# Altium footprint library 74ac-logic.PCBLIB: 21 footprints (part 2 of 2)
Each footprint in its own frame and in the unit in brackets; x right, y up, seen from the top. Pads: shape width x height; smd on the part's side, far side on the other; paste and mask are expansions set on the pad; w line width, h text height; cw(c..) or ccw(c..) is an arc to the next point about the centre after c.
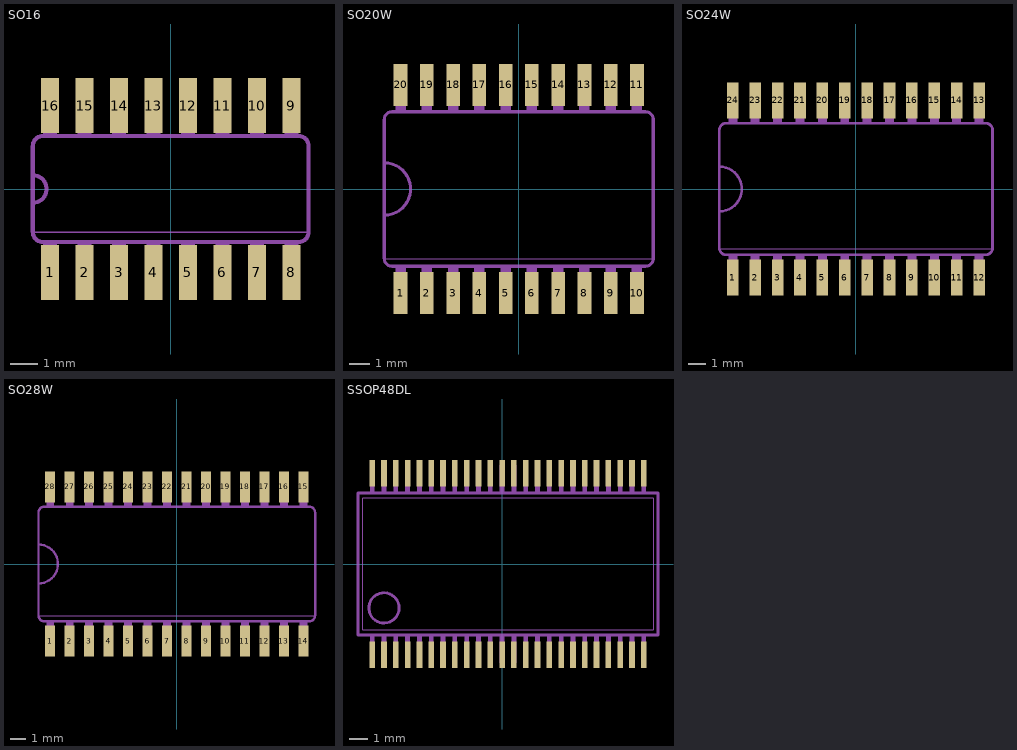
[diagram p1: the footprints below, top view; thin cyan lines are the x and y axes]

## SO16 [mil]
pads (16):
  rect 26x80 smd: 1(-175,-121) 2(-125,-121) 3(-75,-121) 4(-25,-121) 5(25,-121) 6(75,-121) 7(125,-121) 8(175,-121) 9(175,121) 10(125,121) 11(75,121) 12(25,121) 13(-25,121) 14(-75,121) 15(-125,121) 16(-175,121)
Mechanical 2:
  lines w2: -200,-63 200,-63
  lines w6: -200,-20 -200,20 ; -200,-20 -200,-62 ccw(c-185,-62) -185,-77 185,-77 ccw(c185,-62) 200,-62 200,62 ccw(c185,62) 185,77 -185,77 ccw(c-185,62) -200,62 -200,20 ; -200,-20 ccw(c-200,0) -200,20
Mechanical 18:
  rectangle: -35,77 -15,122
  rectangle: -185,-122 -165,-77
  rectangle: -135,-122 -115,-77
  rectangle: -85,-121 -65,-76
  rectangle: -35,-122 -15,-77
  rectangle: -85,77 -65,122
  rectangle: -135,77 -115,122
  rectangle: -185,77 -165,122
  rectangle: 15,-122 35,-77
  rectangle: 65,-122 85,-77
  rectangle: 115,-122 135,-77
  rectangle: 165,-122 185,-77
  rectangle: 15,77 35,122
  rectangle: 65,77 85,122
  rectangle: 115,77 135,122
  rectangle: 165,77 185,122

## SO20W [mil]
pads (20):
  rect 26x80 smd: 1(-225,-198) 2(-175,-198) 3(-125,-198) 4(-75,-198) 5(-25,-198) 6(25,-198) 7(75,-198) 8(125,-198) 9(175,-198) 10(225,-198) 11(225,198) 12(175,198) 13(125,198) 14(75,198) 15(25,198) 16(-25,198) 17(-75,198) 18(-125,198) 19(-175,198) 20(-225,198)
Mechanical 2:
  rectangle: -235,-152 -215,-147
  rectangle: -185,-152 -165,-147
  rectangle: -135,-152 -115,-147
  rectangle: -85,-152 -65,-147
  rectangle: -35,-152 -15,-147
  rectangle: 15,-152 35,-147
  rectangle: 65,-152 85,-147
  rectangle: 115,-152 135,-147
  rectangle: -235,147 -215,152
  rectangle: -185,147 -165,152
  rectangle: -135,147 -115,152
  rectangle: -85,147 -65,152
  rectangle: -35,147 -15,152
  rectangle: 15,147 35,152
  rectangle: 65,147 85,152
  rectangle: 115,147 135,152
  rectangle: 165,147 185,152
  rectangle: 215,147 235,152
  rectangle: 165,-152 185,-147
  rectangle: 215,-152 235,-147
  lines w2: -255,-133 255,-133
  lines w6: -256,-50 -256,50 ; -256,-50 -256,-132 ccw(c-241,-132) -241,-147 241,-147 ccw(c241,-132) 256,-132 256,132 ccw(c241,132) 241,147 -241,147 ccw(c-241,132) -256,132 -256,50 ; -256,-50 ccw(c-256,0) -256,50
Mechanical 18:
  rectangle: -235,-210 -215,-152
  rectangle: -185,-210 -165,-152
  rectangle: -135,-210 -115,-152
  rectangle: -85,-210 -65,-152
  rectangle: -35,-210 -15,-152
  rectangle: 15,-210 35,-152
  rectangle: 65,-210 85,-152
  rectangle: 115,-210 135,-152
  rectangle: -235,152 -215,210
  rectangle: -185,152 -165,210
  rectangle: -135,152 -115,210
  rectangle: -85,152 -65,210
  rectangle: -35,152 -15,210
  rectangle: 15,152 35,210
  rectangle: 65,152 85,210
  rectangle: 115,152 135,210
  rectangle: 165,152 185,210
  rectangle: 215,152 235,210
  rectangle: 165,-210 185,-152
  rectangle: 215,-210 235,-152

## SO24W [mil]
pads (24):
  rect 26x80 smd: 1(-275,-198) 2(-225,-198) 3(-175,-198) 4(-125,-198) 5(-75,-198) 6(-25,-198) 7(25,-198) 8(75,-198) 9(125,-198) 10(175,-198) 11(225,-198) 12(275,-198) 13(275,198) 14(225,198) 15(175,198) 16(125,198) 17(75,198) 18(25,198) 19(-25,198) 20(-75,198) 21(-125,198) 22(-175,198) 23(-225,198) 24(-275,198)
Mechanical 2:
  rectangle: -285,-152 -265,-147
  rectangle: -235,-152 -215,-147
  rectangle: -185,-152 -165,-147
  rectangle: -135,-152 -115,-147
  rectangle: -85,-152 -65,-147
  rectangle: -35,-152 -15,-147
  rectangle: 15,-152 35,-147
  rectangle: 65,-152 85,-147
  rectangle: -285,147 -265,152
  rectangle: -235,147 -215,152
  rectangle: -185,147 -165,152
  rectangle: -135,147 -115,152
  rectangle: -85,147 -65,152
  rectangle: -35,147 -15,152
  rectangle: 15,147 35,152
  rectangle: 65,147 85,152
  rectangle: 115,147 135,152
  rectangle: 165,147 185,152
  rectangle: 215,147 235,152
  rectangle: 265,147 285,152
  rectangle: 115,-152 135,-147
  rectangle: 165,-152 185,-147
  rectangle: 215,-152 235,-147
  rectangle: 265,-152 285,-147
  lines w2: -305,-133 305,-133
  lines w6: -305,-50 -305,50 ; -305,-50 -305,-132 ccw(c-290,-132) -290,-147 290,-147 ccw(c290,-132) 305,-132 305,132 ccw(c290,132) 290,147 -290,147 ccw(c-290,132) -305,132 -305,50 ; -305,-50 ccw(c-305,0) -305,50
Mechanical 18:
  rectangle: -285,-210 -265,-152
  rectangle: -235,-210 -215,-152
  rectangle: -185,-210 -165,-152
  rectangle: -135,-210 -115,-152
  rectangle: -85,-210 -65,-152
  rectangle: -35,-210 -15,-152
  rectangle: 15,-210 35,-152
  rectangle: 65,-210 85,-152
  rectangle: -285,152 -265,210
  rectangle: -235,152 -215,210
  rectangle: -185,152 -165,210
  rectangle: -135,152 -115,210
  rectangle: -85,152 -65,210
  rectangle: -35,152 -15,210
  rectangle: 15,152 35,210
  rectangle: 65,152 85,210
  rectangle: 115,152 135,210
  rectangle: 165,152 185,210
  rectangle: 215,152 235,210
  rectangle: 265,152 285,210
  rectangle: 115,-210 135,-152
  rectangle: 165,-210 185,-152
  rectangle: 215,-210 235,-152
  rectangle: 265,-210 285,-152

## SO28W [mil]
pads (28):
  rect 26x80 smd: 1(-325,-198) 2(-275,-198) 3(-225,-198) 4(-175,-198) 5(-125,-198) 6(-75,-198) 7(-25,-198) 8(25,-198) 9(75,-198) 10(125,-198) 11(175,-198) 12(225,-198) 13(275,-198) 14(325,-198) 15(325,198) 16(275,198) 17(225,198) 18(175,198) 19(125,198) 20(75,198) 21(25,198) 22(-25,198) 23(-75,198) 24(-125,198) 25(-175,198) 26(-225,198) 27(-275,198) 28(-325,198)
Mechanical 2:
  rectangle: -335,-152 -315,-147
  rectangle: -285,-152 -265,-147
  rectangle: -235,-152 -215,-147
  rectangle: -185,-152 -165,-147
  rectangle: -135,-152 -115,-147
  rectangle: -85,-152 -65,-147
  rectangle: -35,-152 -15,-147
  rectangle: 15,-152 35,-147
  rectangle: -335,147 -315,152
  rectangle: -285,147 -265,152
  rectangle: -235,147 -215,152
  rectangle: -185,147 -165,152
  rectangle: -135,147 -115,152
  rectangle: -85,147 -65,152
  rectangle: -35,147 -15,152
  rectangle: 15,147 35,152
  rectangle: 65,147 85,152
  rectangle: 115,147 135,152
  rectangle: 165,147 185,152
  rectangle: 215,147 235,152
  rectangle: 265,147 285,152
  rectangle: 315,147 335,152
  rectangle: 65,-152 85,-147
  rectangle: 115,-152 135,-147
  rectangle: 165,-152 185,-147
  rectangle: 215,-152 235,-147
  rectangle: 265,-152 285,-147
  rectangle: 315,-152 335,-147
  lines w2: -355,-133 355,-133
  lines w6: -355,-50 -355,50 ; -355,-50 -355,-132 ccw(c-340,-132) -340,-147 340,-147 ccw(c340,-132) 355,-132 355,132 ccw(c340,132) 340,147 -340,147 ccw(c-340,132) -355,132 -355,50 ; -355,-50 ccw(c-355,0) -355,50
Mechanical 18:
  rectangle: -335,-210 -315,-152
  rectangle: -285,-210 -265,-152
  rectangle: -235,-210 -215,-152
  rectangle: -185,-210 -165,-152
  rectangle: -135,-210 -115,-152
  rectangle: -85,-210 -65,-152
  rectangle: -35,-210 -15,-152
  rectangle: 15,-210 35,-152
  rectangle: -335,152 -315,210
  rectangle: -285,152 -265,210
  rectangle: -235,152 -215,210
  rectangle: -185,152 -165,210
  rectangle: -135,152 -115,210
  rectangle: -85,152 -65,210
  rectangle: -35,152 -15,210
  rectangle: 15,152 35,210
  rectangle: 65,-210 85,-152
  rectangle: 115,-210 135,-152
  rectangle: 165,-210 185,-152
  rectangle: 215,-210 235,-152
  rectangle: 265,-210 285,-152
  rectangle: 315,-210 335,-152
  rectangle: 65,152 85,210
  rectangle: 115,152 135,210
  rectangle: 165,152 185,210
  rectangle: 215,152 235,210
  rectangle: 265,152 285,210
  rectangle: 315,152 335,210

## SSOP48DL [mil]
pads (48):
  rect 12x56 smd: 1(-275,-192) 2(-250,-192) 3(-225,-192) 4(-200,-192) 5(-175,-192) 6(-150,-192) 7(-125,-192) 8(-100,-192) 9(-75,-192) 10(-50,-192) 11(-25,-192) 12(0,-192) 13(25,-192) 14(50,-192) 15(75,-192) 16(100,-192) 17(125,-192) 18(150,-192) 19(175,-192) 20(200,-192) 21(225,-192) 22(250,-192) 23(275,-192) 24(300,-192) 25(300,192) 26(275,192) 27(250,192) 28(225,192) 29(200,192) 30(175,192) 31(150,192) 32(125,192) 33(100,192) 34(75,192) 35(50,192) 36(25,192) 37(0,192) 38(-25,192) 39(-50,192) 40(-75,192) 41(-100,192) 42(-125,192) 43(-150,192) 44(-175,192) 45(-200,192) 46(-225,192) 47(-250,192) 48(-275,192)
Mechanical 2:
  circle w6: c-250,-93 r32
  rectangle: -5,-161 5,-150
  rectangle: 20,-161 30,-150
  rectangle: 45,-161 55,-150
  rectangle: 70,-161 80,-150
  rectangle: 95,-161 105,-150
  rectangle: 120,-161 130,-150
  rectangle: 145,-161 155,-150
  rectangle: 170,-161 180,-150
  rectangle: 195,-161 205,-150
  rectangle: 220,-161 230,-150
  rectangle: 245,-161 255,-150
  rectangle: 270,-161 280,-150
  rectangle: -30,-161 -20,-150
  rectangle: -55,-161 -45,-150
  rectangle: -80,-161 -70,-150
  rectangle: -105,-161 -95,-150
  rectangle: -130,-161 -120,-150
  rectangle: -155,-161 -145,-150
  rectangle: -180,-161 -170,-150
  rectangle: -205,-161 -195,-150
  rectangle: -230,-161 -220,-150
  rectangle: -255,-161 -245,-150
  rectangle: -280,-161 -270,-150
  rectangle: -5,150 5,161
  rectangle: -280,150 -270,161
  rectangle: -255,150 -245,161
  rectangle: -230,150 -220,161
  rectangle: -205,150 -195,161
  rectangle: -180,150 -170,161
  rectangle: -155,150 -145,161
  rectangle: -130,150 -120,161
  rectangle: -105,150 -95,161
  rectangle: -80,150 -70,161
  rectangle: -55,150 -45,161
  rectangle: -30,150 -20,161
  rectangle: 20,150 30,161
  rectangle: 45,150 55,161
  rectangle: 70,150 80,161
  rectangle: 95,150 105,161
  rectangle: 120,150 130,161
  rectangle: 145,150 155,161
  rectangle: 170,150 180,161
  rectangle: 195,150 205,161
  rectangle: 220,150 230,161
  rectangle: 245,150 255,161
  rectangle: 270,150 280,161
  rectangle: 295,150 305,161
  rectangle: 295,-161 305,-150
  lines w2: -295,-139 320,-139 320,139 -295,139 -295,-139
  lines w6: -305,-150 330,-150 330,150 -305,150 -305,-150
Mechanical 18:
  rectangle: -5,-210 5,-161
  rectangle: -255,-210 -245,-161
  rectangle: -230,-210 -220,-161
  rectangle: -205,-210 -195,-161
  rectangle: -180,-210 -170,-161
  rectangle: -155,-210 -145,-161
  rectangle: -130,-210 -120,-161
  rectangle: -105,-210 -95,-161
  rectangle: -80,-210 -70,-161
  rectangle: -55,-210 -45,-161
  rectangle: -30,-210 -20,-161
  rectangle: -280,-210 -270,-161
  rectangle: 20,-210 30,-161
  rectangle: 45,-210 55,-161
  rectangle: 70,-210 80,-161
  rectangle: 95,-210 105,-161
  rectangle: 120,-210 130,-161
  rectangle: 145,-210 155,-161
  rectangle: 170,-210 180,-161
  rectangle: 195,-210 205,-161
  rectangle: 220,-210 230,-161
  rectangle: 245,-210 255,-161
  rectangle: 270,-210 280,-161
  rectangle: 295,-210 305,-161
  rectangle: -5,161 5,210
  rectangle: -280,161 -270,210
  rectangle: -255,161 -245,210
  rectangle: -230,161 -220,210
  rectangle: -205,161 -195,210
  rectangle: -180,161 -170,210
  rectangle: -155,161 -145,210
  rectangle: -130,161 -120,210
  rectangle: -105,161 -95,210
  rectangle: -80,161 -70,210
  rectangle: -55,161 -45,210
  rectangle: -30,161 -20,210
  rectangle: 20,161 30,210
  rectangle: 45,161 55,210
  rectangle: 70,161 80,210
  rectangle: 95,161 105,210
  rectangle: 120,161 130,210
  rectangle: 145,161 155,210
  rectangle: 170,161 180,210
  rectangle: 195,161 205,210
  rectangle: 220,161 230,210
  rectangle: 245,161 255,210
  rectangle: 270,161 280,210
  rectangle: 295,161 305,210